# EAGLE library part PIC32MX274F256DT-I_PT (library PIC32MX274F256DT-I_PT)
32-bit Microcontrollers - MCU 256KB Flash, 64KB RAM, 10-Bit ADC, UART, SPI/I2S, I2C + VBATT Pin, USB Source: Datasheet <http://www.mouser.com/datasheet/2/268/60001404A-1113402.pdf>
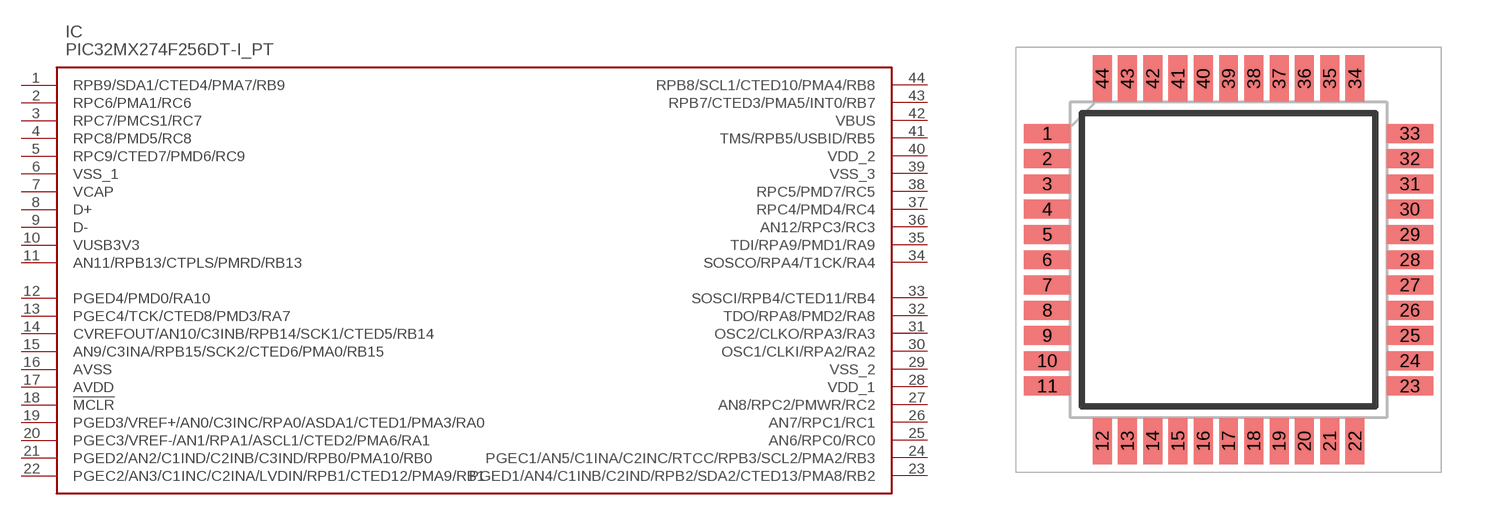
[diagram p0: symbol with the pads of QFP80P1200X1200X120-44N; footprint QFP80P1200X1200X120-44N]

Designator prefix IC

## PIC32MX274F256DT-I_PT (ARROW_PART_NUMBER: PIC32MX274F256DT-I/PT; DESCRIPTION: 32-bit Microcontrollers - MCU 256KB Flash, 64KB RAM, 10-Bit ADC, UART, SPI/I2S, I2C + VBATT Pin, USB; HEIGHT: 1.2mm; MANUFACTURER_NAME: Microchip; MANUFACTURER_PART_NUMBER: PIC32MX274F256DT-I/PT)  [QFP80P1200X1200X120-44N]
1  RPB9/SDA1/CTED4/PMA7/RB9
2  RPC6/PMA1/RC6
3  RPC7/PMCS1/RC7
4  RPC8/PMD5/RC8
5  RPC9/CTED7/PMD6/RC9
6  VSS_1
7  VCAP
8  D+
9  D-
10  VUSB3V3
11  AN11/RPB13/CTPLS/PMRD/RB13
12  PGED4/PMD0/RA10
13  PGEC4/TCK/CTED8/PMD3/RA7
14  CVREFOUT/AN10/C3INB/RPB14/SCK1/CTED5/RB14
15  AN9/C3INA/RPB15/SCK2/CTED6/PMA0/RB15
16  AVSS
17  AVDD
18  !MCLR
19  PGED3/VREF+/AN0/C3INC/RPA0/ASDA1/CTED1/PMA3/RA0
20  PGEC3/VREF-/AN1/RPA1/ASCL1/CTED2/PMA6/RA1
21  PGED2/AN2/C1IND/C2INB/C3IND/RPB0/PMA10/RB0
22  PGEC2/AN3/C1INC/C2INA/LVDIN/RPB1/CTED12/PMA9/RB1
23  PGED1/AN4/C1INB/C2IND/RPB2/SDA2/CTED13/PMA8/RB2
24  PGEC1/AN5/C1INA/C2INC/RTCC/RPB3/SCL2/PMA2/RB3
25  AN6/RPC0/RC0
26  AN7/RPC1/RC1
27  AN8/RPC2/PMWR/RC2
28  VDD_1
29  VSS_2
30  OSC1/CLKI/RPA2/RA2
31  OSC2/CLKO/RPA3/RA3
32  TDO/RPA8/PMD2/RA8
33  SOSCI/RPB4/CTED11/RB4
34  SOSCO/RPA4/T1CK/RA4
35  TDI/RPA9/PMD1/RA9
36  AN12/RPC3/RC3
37  RPC4/PMD4/RC4
38  RPC5/PMD7/RC5
39  VSS_3
40  VDD_2
41  TMS/RPB5/USBID/RB5
42  VBUS
43  RPB7/CTED3/PMA5/INT0/RB7
44  RPB8/SCL1/CTED10/PMA4/RB8

## Footprint QFP80P1200X1200X120-44N (pad centres in mm)
(PT)44-Lead(TQFP)
smd 1.475 x 0.6: 1 -5.738,4; 2 -5.738,3.2; 3 -5.738,2.4; 4 -5.738,1.6; 5 -5.738,0.8; 6 -5.738,0; 7 -5.738,-0.8; 8 -5.738,-1.6; 9 -5.738,-2.4; 10 -5.738,-3.2; 11 -5.738,-4; 23 5.738,-4; 24 5.738,-3.2; 25 5.738,-2.4; 26 5.738,-1.6; 27 5.738,-0.8; 28 5.738,0; 29 5.738,0.8; 30 5.738,1.6; 31 5.738,2.4; 32 5.738,3.2; 33 5.738,4
smd 0.6 x 1.475: 12 -4,-5.738; 13 -3.2,-5.738; 14 -2.4,-5.738; 15 -1.6,-5.738; 16 -0.8,-5.738; 17 0,-5.738; 18 0.8,-5.738; 19 1.6,-5.738; 20 2.4,-5.738; 21 3.2,-5.738; 22 4,-5.738; 34 4,5.738; 35 3.2,5.738; 36 2.4,5.738; 37 1.6,5.738; 38 0.8,5.738; 39 0,5.738; 40 -0.8,5.738; 41 -1.6,5.738; 42 -2.4,5.738; 43 -3.2,5.738; 44 -4,5.738